# Altium footprint library TR8.PcbLib: 78 footprints (part 5 of 5)
Each footprint in its own frame and in the unit in brackets; x right, y up, seen from the top. Pads: shape width x height; smd on the part's side, far side on the other; paste and mask are expansions set on the pad; w line width, h text height; cw(c..) or ccw(c..) is an arc to the next point about the centre after c.
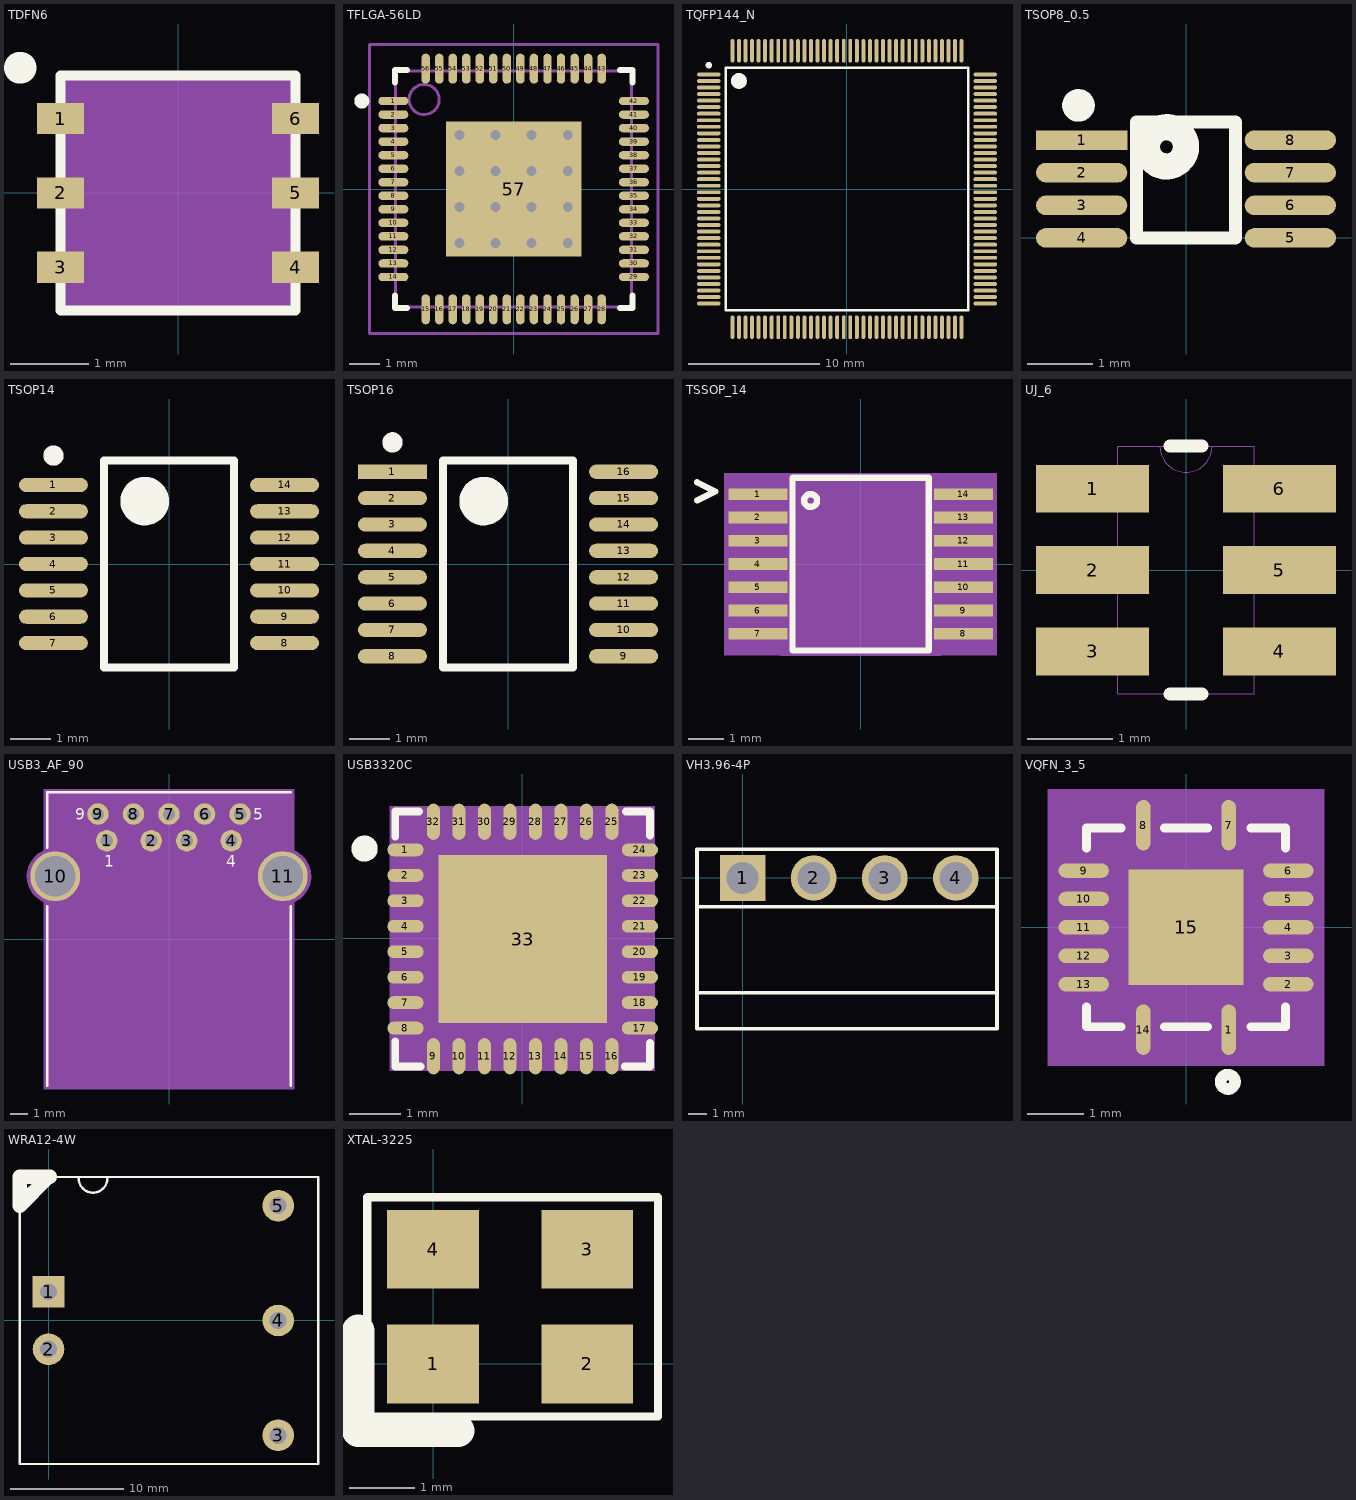
[diagram p4: the footprints below, top view; thin cyan lines are the x and y axes]

## TDFN6 [mm] "6-TDFN-EP"
height 1.45
pads (6):
  rect 0.6x0.4 smd: 1(-1.5,0.95) 2(-1.5,0) 3(-1.5,-0.95) 4(1.5,-0.95) 5(1.5,0) 6(1.5,0.95)
Top Overlay:
  lines w0.127: -1.5,-1.5 1.5,-1.5 1.5,1.5 -1.5,1.5 -1.5,-1.5
  lines w0.4: -2.032,1.6 -2.007,1.6
Mechanical 10:
  text "4" at 1.5,-1.458 h0.64
  text "5" at 1.5,-0.508 h0.64
  text "2" at -1.5,-0.508 h0.64
  text "1" at -1.5,0.442 h0.64
  text "6" at 1.5,0.442 h0.64
  text "3" at -1.5,-1.458 h0.64
Mechanical 11:
  pour cut-out: -1.5,-1.5 -1.5,1.5 1.5,1.5 1.5,-1.5
Mechanical 12:
  region: -1.5,-1.5 -1.5,1.5 1.5,1.5 1.5,-1.5
3D body: height 3.81, standoff 0, extent -1.5,-1.5 1.5,1.5

## TFLGA-56LD [mm] "QFN, 56-Leads, Body 7.8x7.8mm (max), Pitch 0.45mm, IPC Medium Density"
height 0.9
pads (57):
  oval 1x0.28 smd: 1(-4,2.925) 2(-4,2.475) 3(-4,2.025) 4(-4,1.575) 5(-4,1.125) 6(-4,0.675) 7(-4,0.225) 8(-4,-0.225) 9(-4,-0.675) 10(-4,-1.125) 11(-4,-1.575) 12(-4,-2.025) 13(-4,-2.475) 14(-4,-2.925) 29(4,-2.925) 30(4,-2.475) 31(4,-2.025) 32(4,-1.575) 33(4,-1.125) 34(4,-0.675) 35(4,-0.225) 36(4,0.225) 37(4,0.675) 38(4,1.125) 39(4,1.575) 40(4,2.025) 41(4,2.475) 42(4,2.925)
  oval 0.28x1 smd: 15(-2.925,-4) 16(-2.475,-4) 17(-2.025,-4) 18(-1.575,-4) 19(-1.125,-4) 20(-0.675,-4) 21(-0.225,-4) 22(0.225,-4) 23(0.675,-4) 24(1.125,-4) 25(1.575,-4) 26(2.025,-4) 27(2.475,-4) 28(2.925,-4) 43(2.925,4) 44(2.475,4) 45(2.025,4) 46(1.575,4) 47(1.125,4) 48(0.675,4) 49(0.225,4) 50(-0.225,4) 51(-0.675,4) 52(-1.125,4) 53(-1.575,4) 54(-2.025,4) 55(-2.475,4) 56(-2.925,4)
  rect 4.5x4.5 smd: 57(0,0)
via 1.8,-1.8 diameter 0.66 hole 0.33
via 0.6,-1.8 diameter 0.66 hole 0.33
via -0.6,-1.8 diameter 0.66 hole 0.33
via -1.8,-1.8 diameter 0.66 hole 0.33
via 1.8,-0.6 diameter 0.66 hole 0.33
via 0.6,-0.6 diameter 0.66 hole 0.33
via -0.6,-0.6 diameter 0.66 hole 0.33
via -1.8,-0.6 diameter 0.66 hole 0.33
via 1.8,0.6 diameter 0.66 hole 0.33
via 0.6,0.6 diameter 0.66 hole 0.33
via -0.6,0.6 diameter 0.66 hole 0.33
via -1.8,0.6 diameter 0.66 hole 0.33
via 1.8,1.8 diameter 0.66 hole 0.33
via 0.6,1.8 diameter 0.66 hole 0.33
via -0.6,1.8 diameter 0.66 hole 0.33
via -1.8,1.8 diameter 0.66 hole 0.33
Top Overlay:
  circle w0.25: c-5.05,2.925 r0.125
  lines w0.2: -3.95,-3.54 -3.95,-3.95 -3.54,-3.95 ; -3.95,3.54 -3.95,3.95 -3.54,3.95 ; 3.54,-3.95 3.95,-3.95 3.95,-3.54 ; 3.54,3.95 3.95,3.95 3.95,3.54
Mechanical 13:
  circle w0.1: c-2.975,2.975 r0.5
  lines w0.1: -3.925,-3.925 3.925,-3.925 3.925,3.925 -3.925,3.925 -3.925,-3.925
Mechanical 15:
  lines w0.1: -0.5,0 0.5,0 ; 0,-0.5 0,0.5 ; -4.8,-4.8 4.8,-4.8 4.8,4.8 -4.8,4.8 -4.8,-4.8
3D body: height 0.9, standoff 0.2, extent -3.925,-3.925 3.925,3.925

## TQFP144_N [mm] "Thin QFP, 144-Leads, Body 20x20mm, Pitch 0.5mm, IPC Medium Density"
height 1.6
pads (144):
  oval 1.8x0.3 smd: 1(-10.55,8.75) 2(-10.55,8.25) 3(-10.55,7.75) 4(-10.55,7.25) 5(-10.55,6.75) 6(-10.55,6.25) 7(-10.55,5.75) 8(-10.55,5.25) 9(-10.55,4.75) 10(-10.55,4.25) 11(-10.55,3.75) 12(-10.55,3.25) 13(-10.55,2.75) 14(-10.55,2.25) 15(-10.55,1.75) 16(-10.55,1.25) 17(-10.55,0.75) 18(-10.55,0.25) 19(-10.55,-0.25) 20(-10.55,-0.75) 21(-10.55,-1.25) 22(-10.55,-1.75) 23(-10.55,-2.25) 24(-10.55,-2.75) 25(-10.55,-3.25) 26(-10.55,-3.75) 27(-10.55,-4.25) 28(-10.55,-4.75) 29(-10.55,-5.25) 30(-10.55,-5.75) 31(-10.55,-6.25) 32(-10.55,-6.75) 33(-10.55,-7.25) 34(-10.55,-7.75) 35(-10.55,-8.25) 36(-10.55,-8.75) 73(10.55,-8.75) 74(10.55,-8.25) 75(10.55,-7.75) 76(10.55,-7.25) 77(10.55,-6.75) 78(10.55,-6.25) 79(10.55,-5.75) 80(10.55,-5.25) 81(10.55,-4.75) 82(10.55,-4.25) 83(10.55,-3.75) 84(10.55,-3.25) 85(10.55,-2.75) 86(10.55,-2.25) 87(10.55,-1.75) 88(10.55,-1.25) 89(10.55,-0.75) 90(10.55,-0.25) 91(10.55,0.25) 92(10.55,0.75) 93(10.55,1.25) 94(10.55,1.75) 95(10.55,2.25) 96(10.55,2.75) 97(10.55,3.25) 98(10.55,3.75) 99(10.55,4.25) 100(10.55,4.75) 101(10.55,5.25) 102(10.55,5.75) 103(10.55,6.25) 104(10.55,6.75) 105(10.55,7.25) 106(10.55,7.75) 107(10.55,8.25) 108(10.55,8.75)
  oval 0.3x1.8 smd: 37(-8.75,-10.55) 38(-8.25,-10.55) 39(-7.75,-10.55) 40(-7.25,-10.55) 41(-6.75,-10.55) 42(-6.25,-10.55) 43(-5.75,-10.55) 44(-5.25,-10.55) 45(-4.75,-10.55) 46(-4.25,-10.55) 47(-3.75,-10.55) 48(-3.25,-10.55) 49(-2.75,-10.55) 50(-2.25,-10.55) 51(-1.75,-10.55) 52(-1.25,-10.55) 53(-0.75,-10.55) 54(-0.25,-10.55) 55(0.25,-10.55) 56(0.75,-10.55) 57(1.25,-10.55) 58(1.75,-10.55) 59(2.25,-10.55) 60(2.75,-10.55) 61(3.25,-10.55) 62(3.75,-10.55) 63(4.25,-10.55) 64(4.75,-10.55) 65(5.25,-10.55) 66(5.75,-10.55) 67(6.25,-10.55) 68(6.75,-10.55) 69(7.25,-10.55) 70(7.75,-10.55) 71(8.25,-10.55) 72(8.75,-10.55) 109(8.75,10.55) 110(8.25,10.55) 111(7.75,10.55) 112(7.25,10.55) 113(6.75,10.55) 114(6.25,10.55) 115(5.75,10.55) 116(5.25,10.55) 117(4.75,10.55) 118(4.25,10.55) 119(3.75,10.55) 120(3.25,10.55) 121(2.75,10.55) 122(2.25,10.55) 123(1.75,10.55) 124(1.25,10.55) 125(0.75,10.55) 126(0.25,10.55) 127(-0.25,10.55) 128(-0.75,10.55) 129(-1.25,10.55) 130(-1.75,10.55) 131(-2.25,10.55) 132(-2.75,10.55) 133(-3.25,10.55) 134(-3.75,10.55) 135(-4.25,10.55) 136(-4.75,10.55) 137(-5.25,10.55) 138(-5.75,10.55) 139(-6.25,10.55) 140(-6.75,10.55) 141(-7.25,10.55) 142(-7.75,10.55) 143(-8.25,10.55) 144(-8.75,10.55)
Top Overlay:
  circle w0.6: c-8.25,8.25 r0.3
  circle w0.25: c-10.55,9.45 r0.125
  lines w0.2: -9.25,-9.25 9.25,-9.25 9.25,9.25 -9.25,9.25 -9.25,-9.25

## TSOP8_0.5 [mm] "TSOP, 8-Leads, Pitch 0.65mm, IPC Medium Density"
height 1.3
pads (8):
  rect 1.4x0.3 smd: 1(-1.6,1.5)
  oval 1.4x0.3 smd: 2(-1.6,1) 3(-1.6,0.5) 4(-1.6,0) 5(1.6,0) 6(1.6,0.5) 7(1.6,1) 8(1.6,1.5)
Top Overlay:
  circle w0.4: c-0.3,1.397 r0.3
  circle w0.25: c-1.649,2.032 r0.125
  lines w0.2: -0.762,0 0.762,0 0.762,1.778 -0.762,1.778 -0.762,0

## TSOP14 [mm] "TSOP, 14-Leads, Body 5.1x4.5mm (max), Pitch 0.65mm, IPC Medium Density"
height 1.2
pads (14):
  oval 1.7x0.35 smd: 1(-2.85,1.95) 2(-2.85,1.3) 3(-2.85,0.65) 4(-2.85,0) 5(-2.85,-0.65) 6(-2.85,-1.3) 7(-2.85,-1.95) 8(2.85,-1.95) 9(2.85,-1.3) 10(2.85,-0.65) 11(2.85,0) 12(2.85,0.65) 13(2.85,1.3) 14(2.85,1.95)
Top Overlay:
  circle w0.25: c-2.85,2.675 r0.125
  circle w0.6: c-0.6,1.55 r0.3
  lines w0.2: -1.6,-2.55 -1.6,2.55 1.6,2.55 1.6,-2.55 -1.6,-2.55

## TSOP16 [mm] "TSOP, 16-Leads, Body 5.1x4.5mm (max), Pitch 0.65mm, IPC Medium Density"
height 1.2
pads (16):
  rect 1.7x0.35 smd: 1(-2.85,2.275)
  oval 1.7x0.35 smd: 2(-2.85,1.625) 3(-2.85,0.975) 4(-2.85,0.325) 5(-2.85,-0.325) 6(-2.85,-0.975) 7(-2.85,-1.625) 8(-2.85,-2.275) 9(2.85,-2.275) 10(2.85,-1.625) 11(2.85,-0.975) 12(2.85,-0.325) 13(2.85,0.325) 14(2.85,0.975) 15(2.85,1.625) 16(2.85,2.275)
Top Overlay:
  circle w0.6: c-0.6,1.55 r0.3
  circle w0.25: c-2.85,3 r0.125
  lines w0.2: -1.6,-2.55 1.6,-2.55 1.6,2.55 -1.6,2.55 -1.6,-2.55

## TSSOP_14 [mil] "TSSOP_14"
pads (14):
  rect 65x12.99 smd: 1(-113,77) 2(-113,51.4) 3(-113,25.8) 4(-113,0.2) 5(-113,-25.4) 6(-113,-51) 7(-113,-76.6) 8(113,-76.6) 9(113,-51) 10(113,-25.4) 11(113,0.2) 12(113,25.8) 13(113,51.4) 14(113,77)
Top Overlay:
  circle w7: c-55,70 r7.07
  lines w7: -180,70 -160,80 -180,90 ; -75,-95 -75,95 75,95 75,-95 -75,-95
Mechanical 10:
  text "7" at -113,-56.6 h25
  text "14" at 113,77 h25
  text "13" at 113,51.4 h25
  text "6" at -113,-31 h25
  text "5" at -113,-5.4 h25
  text "3" at -113,45.8 h25
  text "12" at 113,25.8 h25
  text "10" at 113,-25.4 h25
  text "11" at 113,0.2 h25
  text "9" at 113,-51 h25
  text "2" at -113,71.4 h25
  text "4" at -113,20.2 h25
  text "1" at -113,97 h25
  text "8" at 113,-76.6 h25
Mechanical 11:
  circle w1: c-60,70 r10
  lines w1: -88,-100 -88,100 88,100 88,-100 -88,-100
  text "***" at -30,-90 h31
  text "***" at -30,-50 h31
Mechanical 12:
  region: -150,-100 150,-100 150,100 -150,100
Mechanical 16:
  pour cut-out: -145.5,-100 145.5,-100 145.5,100 -145.5,100
3D body: height 150, standoff 0, extent -150,-100 150,100

## UJ_6 [mil]
pads (6):
  rect 52x22 smd: 1(-43,37.4) 2(-43,0) 3(-43,-37.4) 4(43,-37.4) 5(43,0) 6(43,37.4)
Top Overlay:
  lines w6: -7.25,-57 7.25,-57 ; -7.25,57 7.25,57
Mechanical 1:
  lines w0: -12,57 ccw(c0,57) 12,57 ; -55,-47.4 -31.5,-47.4 -31.5,-27.4 -55,-27.4 -55,-47.4 ; -55,-10 -31.5,-10 -31.5,10 -55,10 -55,-10 ; -55,27.4 -31.5,27.4 -31.5,47.4 -55,47.4 -55,27.4 ; -31.5,-57 -31.5,57 31.5,57 31.5,-57 -31.5,-57 ; 31.5,-47.4 55,-47.4 55,-27.4 31.5,-27.4 31.5,-47.4 ; 31.5,-10 55,-10 55,10 31.5,10 31.5,-10 ; 31.5,27.4 55,27.4 55,47.4 31.5,47.4 31.5,27.4
  text "RefDes2" at -95,60 h30

## USB3_AF_90 [mm] "USB3_AF_90"
pads (11):
  round 1.208 hole 0.7: 1(-3.5,5.53) 2(-1,5.53) 3(1,5.53) 4(3.5,5.53) 5(4,7.03) 6(2,7.03) 7(0,7.03) 8(-2,7.03) 9(-4,7.03)
  round 2.808 hole 2.3: 10(-6.4,3.53) 11(6.4,3.53)
Top Overlay:
  lines w0.152: -6.85,-8.25 -6.85,1.851 ; -6.85,5.153 -6.85,8.25 6.85,8.25 ; 6.85,-8.25 6.85,1.851
  text "1" at -3.632,4.052 h0.64
  text "4" at 3.226,4.052 h0.64
  text "5" at 4.75,6.719 h0.64
  text "9" at -5.283,6.719 h0.64
Mechanical 10:
  text "5" at 4,7.284 h0.64
  text "8" at -2,7.284 h0.64
  text "4" at 3.5,5.784 h0.64
  text "9" at -4,7.284 h0.64
  text "1" at -3.5,5.784 h0.64
  text "11" at 6.4,4.038 h0.64
  text "10" at -6.4,4.038 h0.64
  text "6" at 2,7.284 h0.64
  text "2" at -1,5.784 h0.64
  text "3" at 1,5.784 h0.64
  text "7" at 0,7.284 h0.64
Mechanical 12:
  region: -7.041,-8.441 -7.041,2.07 -7.166,2.131 -7.285,2.203 -7.397,2.285 -7.501,2.377 -7.598,2.477 -7.685,2.586 -7.762,2.701 -7.829,2.823 -7.886,2.95 -7.93,3.082 -7.964,3.217 -7.985,3.355 -7.994,3.493 -7.991,3.632 -7.976,3.771 -7.949,3.907 -7.911,4.041 -7.86,4.171 -7.799,4.295 -7.727,4.414 -7.645,4.527 -7.553,4.631 -7.453,4.728 -7.344,4.815 -7.229,4.892 -7.107,4.959 -7.041,4.99 -7.041,8.441 7.041,8.441 7.041,4.99 7.165,4.929 7.284,4.857 7.397,4.775 7.501,4.683 7.598,4.583 7.685,4.474 7.762,4.359 7.829,4.237 7.886,4.11 7.93,3.978 7.964,3.843 7.985,3.705 7.994,3.566 7.991,3.427 7.976,3.289 7.949,3.153 7.911,3.019 7.86,2.889 7.799,2.764 7.727,2.645 7.645,2.533 7.553,2.429 7.453,2.332 7.344,2.245 7.229,2.168 7.107,2.101 7.041,2.07 7.041,-8.441
3D body: height 3.81, standoff 0, extent -7.994,-8.441 7.994,8.441

## USB3320C [mil] "USB3320C"
pads (33):
  oval 28x10 smd: 1(-90.17,68.39) 2(-90.17,48.69) 3(-90.17,29.01) 4(-90.17,9.32) 5(-90.17,-10.36) 6(-90.17,-30.05) 7(-90.17,-49.73) 8(-90.17,-69.42) 17(90.94,-69.42) 18(90.94,-49.73) 19(90.94,-30.05) 20(90.94,-10.36) 21(90.94,9.32) 22(90.94,29.01) 23(90.94,48.69) 24(90.94,68.39)
  oval 10x28 smd: 9(-68.52,-91.07) 10(-48.82,-91.07) 11(-29.14,-91.07) 12(-9.45,-91.07) 13(10.22,-91.07) 14(29.92,-91.07) 15(49.59,-91.07) 16(69.29,-91.07) 25(69.29,90.03) 26(49.59,90.03) 27(29.92,90.03) 28(10.22,90.03) 29(-9.45,90.03) 30(-29.14,90.03) 31(-48.82,90.03) 32(-68.52,90.03)
  rect 129.93x129.93 smd: 33(0.39,-0.52)
Top Overlay:
  circle w10: c-121.74,69.33 r5.1
  lines w6: -98.04,-79.81 -98.04,-98.95 -78.54,-98.95 ; -98.04,78.68 -98.04,97.91 -79.65,97.91 ; 79.22,-98.95 98.81,-98.95 98.81,-80.91 ; 80.31,97.91 98.81,97.91 98.81,79.42
Mechanical 10:
  text "33" at -19.61,-0.52 h25
  text "30" at -49.15,90.03 h25
  text "28" at -9.78,90.03 h25
  text "32" at -88.52,90.03 h25
  text "14" at 9.92,-91.07 h25
  text "11" at -49.15,-91.07 h25
  text "8" at -100.17,-69.42 h25
  text "21" at 95,0 h25
  text "18" at 70.94,-49.73 h25
  text "27" at 9.92,90.03 h25
  text "17" at 70.94,-69.42 h25
  text "1" at -100.17,68.38 h25
  text "26" at 29.59,90.03 h25
  text "25" at 49.29,90.03 h25
  text "24" at 70.94,68.38 h25
  text "19" at 85,-5 h25
  text "22" at 85,40 h25
  text "15" at 29.59,-91.07 h25
  text "16" at 49.29,-91.07 h25
  text "12" at -29.45,-91.07 h25
  text "5" at -100.17,-10.36 h25
  text "2" at -100.17,48.69 h25
  text "3" at -100.17,29.01 h25
  text "4" at -100.17,9.32 h25
  text "7" at -100.17,-49.73 h25
  text "6" at -100.17,-30.05 h25
  text "9" at -78.52,-91.07 h25
  text "10" at -68.82,-91.07 h25
  text "29" at -29.45,90.03 h25
  text "31" at -68.82,90.03 h25
  text "13" at -9.78,-91.07 h25
  text "23" at 70.94,48.69 h25
  text "20" at 95,0 h25
Mechanical 12:
  region: 102.37,-102.18 102.37,102.18 -102.37,102.18 -102.37,-102.18
3D body: height 150, standoff 0, extent -102.37,-102.18 102.37,102.18

## VH3.96-4P [mm]
pads (4):
  rect 2.54x2.54 hole 1.8: 1(0,0)
  round 2.54 hole 1.8: 2(3.96,0) 3(7.92,0) 4(11.88,0)
Top Overlay:
  lines w0.203: -2.54,-6.4 14.173,-6.4 ; -2.54,-1.609 14.173,-1.609 ; -2.54,-8.4 14.173,-8.4 14.173,1.6 -2.54,1.6 -2.54,-8.4
  text ".Designator" at 2.022,-0.707 h0.64
Mechanical 10:
  text "2" at 1.754,0 h0.64
  text "1" at -0.746,0 h0.64
Mechanical 13:
  text "2.5" at -2.422,-2.197 h0.64
  text "98.43" at 0.118,-2.197 h0.64

## VQFN_3_5 [mil] "VQFN_3_5"
pads (15):
  oval 10x35 smd: 1(29.53,-70.87) 7(29.53,70.87) 8(-29.53,70.87) 14(-29.53,-70.87)
  oval 35x10 smd: 2(70.87,-39.37) 3(70.87,-19.69) 4(70.87,0) 5(70.87,19.69) 6(70.87,39.37) 9(-70.87,39.37) 10(-70.87,19.69) 11(-70.87,0) 12(-70.87,-19.69) 13(-70.87,-39.37)
  rect 80x80 smd: 15(0,0)
Top Overlay:
  circle w8: c29,-107 r5
  lines w6: -68.9,-55 -68.9,-68.9 -45,-68.9 ; -68.9,55 -68.9,68.9 -45,68.9 ; -15,-68.9 15,-68.9 ; -15,68.9 15,68.9 ; 45,-68.9 68.9,-68.9 68.9,-55 ; 45,68.9 68.9,68.9 68.9,55
  text ".Designator" at 97.63,-83.17 h25
Mechanical 10:
  text "3" at 60.87,-19.69 h25
  text "2" at 60.87,-39.37 h25
  text "14" at -49.53,-70.87 h25
  text "6" at 60.87,39.37 h25
  text "5" at 60.87,19.69 h25
  text "4" at 60.87,0 h25
  text "1" at 19.53,-70.87 h25
  text "9" at -80.87,39.37 h25
  text "8" at -39.53,70.87 h25
  text "11" at -90.87,0 h25
  text "12" at -90.87,-19.69 h25
  text "13" at -90.87,-39.37 h25
  text "10" at -90.87,19.69 h25
  text "7" at 19.53,70.87 h25
Mechanical 12:
  region: -95.87,-95.87 95.87,-95.87 95.87,95.87 -95.87,95.87
3D body: height 150, standoff 0, extent -95.87,-95.87 95.87,95.87

## WRA12-4W [mm] "DANENG MODULE,2 CH HIGH-VOLT OUT"
height 11.8
pads (5):
  rect 2.8x2.8 hole 1.5: 1(0,2.54)
  round 2.8 hole 1.5: 2(0,-2.54) 3(20.32,-10.16) 4(20.32,0) 5(20.32,10.16)
Top Overlay:
  lines w0.2: 2.667,12.573 ccw(c3.937,12.573) 5.207,12.573 ; -2.54,-12.7 23.86,-12.7 23.86,12.7 -2.54,12.7 -2.54,-12.7
  lines w1.27: -0.127,12.7 -2.54,12.7 -2.54,10.16 0,12.7 0.127,12.7

## XTAL-3225 [mm] "SMT,3.2x2.5mm, pin1/3 sig;pin2/4 gnd"
height 0.8
pads (4):
  rect 1.4x1.2 smd: 1(0,0) 2(2.35,0) 3(2.35,1.75) 4(0,1.75)
Top Overlay:
  lines w0.127: -1,-0.8 -1,2.54 3.429,2.54 3.429,-0.8 -1,-0.8
  lines w0.5: -1.143,0.508 -1.143,-1.016 0.381,-1.016